# EAGLE library part 6250XX22323_62503422323 (library Wurth_Connectors_WR-BHD)
WR-BHD 2.00 mm Board to Cable Transition Connector KIND PROPERTIES: Pitch 2 mm Gender:Transition MATERIAL PROPERTIES: Insulator Material:PBT Insulator Flammability Rating UL94 V-0 Insulator Color:Black Contact Material :Copper Alloy Contact Plating :Gold Contact Type: Stamped GENERAL INFORMATION: Operating Temperature:-40 °C up to +125 °C Compliance:RoHS Working Voltage: 250 V (AC) Withstanding Voltage:500 V (AC) Contact Resistance: 20 mΩ Insulation Resistance:1000 MΩ CERTIFICATION UL Approval：E323964 PACKAGING PROPERTIES Packaging :Tray <https://www.we-online.de/katalog/media/o32943v209%20Family_WR-BHD_6250xx22323.jpg> Details see: https://www.we-online.de/katalog/en/em/BHD_2_00_BOARD_TO_CAB_TRANSITION_CONNECTOR_6250XX22323 Updated by Yingchun,Shan 2019-11-04 2019 (C) Würth Elektronik
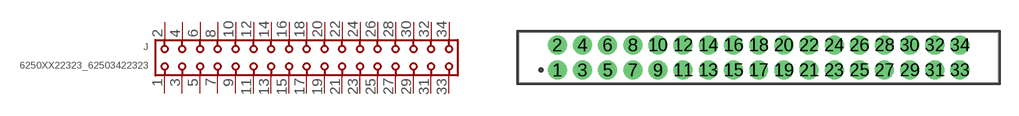
[diagram p34: symbol with the pads of 62503422323; footprint 62503422323]

Designator prefix J

## 6250XX22323_62503422323 (CONTACT-RESISTANCE: 20mOhm; DATASHEET-URL: https://www.we-online.com/redexpert/spec/62503422323?ae; GENDER: Transition; IR: 1A; LENGTH: 38.1mm; MOUNT: THT; PACKAGING: Tray; PART-NUMBER: 62503422323; PINS: 34; PITCH: 2mm; TYPE: Straight; VALUE: 62503422323; WORKING-VOLTAGE: 250V(AC))  [62503422323]
1  1  pas
2  2  pas
3  3  pas
4  4  pas
5  5  pas
6  6  pas
7  7  pas
8  8  pas
9  9  pas
10  10  pas
11  11  pas
12  12  pas
13  13  pas
14  14  pas
15  15  pas
16  16  pas
17  17  pas
18  18  pas
19  19  pas
20  20  pas
21  21  pas
22  22  pas
23  23  pas
24  24  pas
25  25  pas
26  26  pas
27  27  pas
28  28  pas
29  29  pas
30  30  pas
31  31  pas
32  32  pas
33  33  pas
34  34  pas

## Footprint 62503422323 (pad centres in mm)
WR-BHD 2.00 mm Board to Cable Transition Connector,34 pins
drill 1: 1 -16,-1; 2 -16,1; 3 -14,-1; 4 -14,1; 5 -12,-1; 6 -12,1; 7 -10,-1; 8 -10,1; 9 -8,-1; 10 -8,1; 11 -6,-1; 12 -6,1; 13 -4,-1; 14 -4,1; 15 -2,-1; 16 -2,1; 17 0,-1; 18 0,1; 19 2,-1; 20 2,1; 21 4,-1; 22 4,1; 23 6,-1; 24 6,1; 25 8,-1; 26 8,1; 27 10,-1; 28 10,1; 29 12,-1; 30 12,1; 31 14,-1; 32 14,1; 33 16,-1; 34 16,1